# Altium footprint library 2512.PcbLib: 2 footprints
Each footprint in its own frame and in the unit in brackets; x right, y up, seen from the top. Pads: shape width x height; smd on the part's side, far side on the other; paste and mask are expansions set on the pad; w line width, h text height; cw(c..) or ccw(c..) is an arc to the next point about the centre after c.
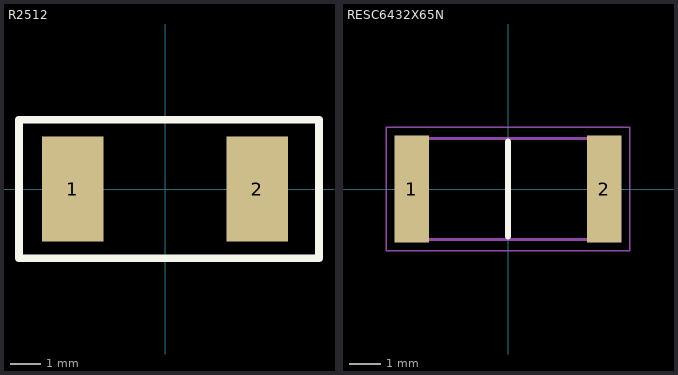
[diagram p0: the footprints below, top view; thin cyan lines are the x and y axes]

## R2512 [mm]
pads (2):
  rect 2x3.4 smd: 1(-3,0) 2(3,0)
Top Overlay:
  lines w0.254: -4.75,-2.25 -4.75,2.25 5,2.25 5,-2.25 -4.75,-2.25
3D body "RESC6432X06.step": height 0.6, standoff 0, extent -3.2,-1.6 3.2,1.6

## RESC6432X65N [mm]
pads (2):
  rect 1.1x3.4 smd: 1(-3.05,0) 2(3.05,0)
Top Overlay:
  lines w0.2: 0,-1.5 0,1.5
Mechanical 13:
  lines w0.1: -3.175,-1.6 3.175,-1.6 3.175,1.6 -3.175,1.6 -3.175,-1.6
Mechanical 15:
  lines w0.05: -3.85,-1.95 3.85,-1.95 3.85,1.95 -3.85,1.95 -3.85,-1.95
3D body "RL2512FK-070R05L.stp": height 1.6, standoff -1.6, extent -3.175,0 3.175,0.65